# Altium footprint library CH340X.PcbLib: 3 footprints
Each footprint in its own frame and in the unit in brackets; x right, y up, seen from the top. Pads: shape width x height; smd on the part's side, far side on the other; paste and mask are expansions set on the pad; w line width, h text height; cw(c..) or ccw(c..) is an arc to the next point about the centre after c.
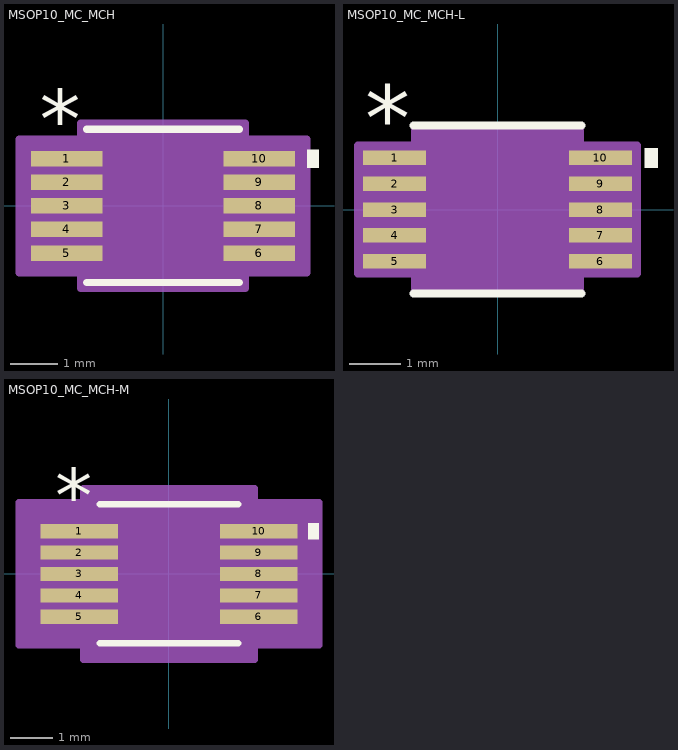
[diagram p0: the footprints below, top view; thin cyan lines are the x and y axes]

## MSOP10_MC_MCH [mil]
pads (10):
  rect 59.56x13 smd paste+0 mask+0: 1(-80.5,39.37) 2(-80.5,19.68) 3(-80.5,0) 4(-80.5,-19.68) 5(-80.5,-39.37) 6(80.5,-39.37) 7(80.5,-19.68) 8(80.5,0) 9(80.5,19.68) 10(80.5,39.37)
Top Overlay:
  region: 120.28,46.87 130.28,46.87 130.28,31.87 120.28,31.87
  lines w6: -64,-64 64,-64 ; -64,64 64,64
  text "*" at -103,47.37 h50
Mechanical 13:
  lines w0: -12,59 ccw(c0,59) 12,59
  lines w1: -96.5,-45.87 -96.5,-32.87 -59,-32.87 -59,-45.87 -96.5,-45.87 ; -96.5,-26.18 -96.5,-13.19 -59,-13.19 -59,-26.18 -96.5,-26.18 ; -96.5,-6.5 -96.5,6.5 -59,6.5 -59,-6.5 -96.5,-6.5 ; -96.5,13.19 -96.5,26.18 -59,26.18 -59,13.19 -96.5,13.19 ; -96.5,32.87 -96.5,45.87 -59,45.87 -59,32.87 -96.5,32.87 ; -59,-59 59,-59 59,59 -59,59 -59,-59 ; 59,-45.87 59,-32.87 96.5,-32.87 96.5,-45.87 59,-45.87 ; 59,-26.18 59,-13.19 96.5,-13.19 96.5,-26.18 59,-26.18 ; 59,-6.5 59,6.5 96.5,6.5 96.5,-6.5 59,-6.5 ; 59,13.19 59,26.18 96.5,26.18 96.5,13.19 59,13.19 ; 59,32.87 59,45.87 96.5,45.87 96.5,32.87 59,32.87
  text "*" at -56.5,6 h50
Mechanical 15:
  region: -69,-55.87 -120.28,-55.87 -120.28,55.87 -69,55.87 -69,69 69,69 69,55.87 120.28,55.87 120.28,-55.87 69,-55.87 69,-69 -69,-69
  lines w6: -120.28,-55.87 -120.28,55.87 -69,55.87 -69,69 69,69 69,55.87 120.28,55.87 120.28,-55.87 69,-55.87 69,-69 -69,-69 -69,-55.87 -120.28,-55.87
3D body "MSOP10_MC_MCH.step": height 43.11, standoff 0, extent -96.5,-59.02 96.5,59.02

## MSOP10_MC_MCH-L [mm]
pads (10):
  rect 1.213x0.28 smd paste+0 mask+0: 1(-1.995,1) 2(-1.995,0.5) 3(-1.995,0) 4(-1.995,-0.5) 5(-1.995,-1) 6(1.995,-1) 7(1.995,-0.5) 8(1.995,0) 9(1.995,0.5) 10(1.995,1)
Top Overlay:
  region: 2.855,1.191 3.109,1.191 3.109,0.81 2.855,0.81
  lines w0.152: -1.626,-1.626 1.626,-1.626 ; -1.626,1.626 1.626,1.626
  text "*" at -2.566,1.153 h1.27
Mechanical 13:
  lines w0: -0.305,1.499 ccw(c0,1.499) 0.305,1.499
  lines w0.025: -2.451,-1.165 -2.451,-0.835 -1.499,-0.835 -1.499,-1.165 -2.451,-1.165 ; -2.451,-0.665 -2.451,-0.335 -1.499,-0.335 -1.499,-0.665 -2.451,-0.665 ; -2.451,-0.165 -2.451,0.165 -1.499,0.165 -1.499,-0.165 -2.451,-0.165 ; -2.451,0.335 -2.451,0.665 -1.499,0.665 -1.499,0.335 -2.451,0.335 ; -2.451,0.835 -2.451,1.165 -1.499,1.165 -1.499,0.835 -2.451,0.835 ; -1.499,-1.499 1.499,-1.499 1.499,1.499 -1.499,1.499 -1.499,-1.499 ; 1.499,-1.165 1.499,-0.835 2.451,-0.835 2.451,-1.165 1.499,-1.165 ; 1.499,-0.665 1.499,-0.335 2.451,-0.335 2.451,-0.665 1.499,-0.665 ; 1.499,-0.165 1.499,0.165 2.451,0.165 2.451,-0.165 1.499,-0.165 ; 1.499,0.335 1.499,0.665 2.451,0.665 2.451,0.335 1.499,0.335 ; 1.499,0.835 1.499,1.165 2.451,1.165 2.451,0.835 1.499,0.835
  text "*" at -1.435,0.152 h1.27
Mechanical 15:
  region: -1.6,-1.242 -2.703,-1.242 -2.703,1.242 -1.6,1.242 -1.6,1.6 1.6,1.6 1.6,1.242 2.703,1.242 2.703,-1.242 1.6,-1.242 1.6,-1.6 -1.6,-1.6
  lines w0.152: -2.703,-1.242 -2.703,1.242 -1.6,1.242 -1.6,1.6 1.6,1.6 1.6,1.242 2.703,1.242 2.703,-1.242 1.6,-1.242 1.6,-1.6 -1.6,-1.6 -1.6,-1.242 -2.703,-1.242
3D body "MSOP10_MC_MCH.step": height 1.09, standoff 0, extent -2.451,-1.499 2.451,1.499

## MSOP10_MC_MCH-M [mil]
pads (10):
  rect 71.37x13 smd paste+0 mask+0: 1(-82.47,39.37) 2(-82.47,19.68) 3(-82.47,0) 4(-82.47,-19.68) 5(-82.47,-39.37) 6(82.47,-39.37) 7(82.47,-19.68) 8(82.47,0) 9(82.47,19.68) 10(82.47,39.37)
Top Overlay:
  region: 128.15,46.87 138.15,46.87 138.15,31.87 128.15,31.87
  lines w6: -64,-64 64,-64 ; -64,64 64,64
  text "*" at -104.97,47.37 h50
Mechanical 13:
  lines w0: -12,59 ccw(c0,59) 12,59
  lines w1: -96.5,-45.87 -96.5,-32.87 -59,-32.87 -59,-45.87 -96.5,-45.87 ; -96.5,-26.18 -96.5,-13.19 -59,-13.19 -59,-26.18 -96.5,-26.18 ; -96.5,-6.5 -96.5,6.5 -59,6.5 -59,-6.5 -96.5,-6.5 ; -96.5,13.19 -96.5,26.18 -59,26.18 -59,13.19 -96.5,13.19 ; -96.5,32.87 -96.5,45.87 -59,45.87 -59,32.87 -96.5,32.87 ; -59,-59 59,-59 59,59 -59,59 -59,-59 ; 59,-45.87 59,-32.87 96.5,-32.87 96.5,-45.87 59,-45.87 ; 59,-26.18 59,-13.19 96.5,-13.19 96.5,-26.18 59,-26.18 ; 59,-6.5 59,6.5 96.5,6.5 96.5,-6.5 59,-6.5 ; 59,13.19 59,26.18 96.5,26.18 96.5,13.19 59,13.19 ; 59,32.87 59,45.87 96.5,45.87 96.5,32.87 59,32.87
  text "*" at -56.5,6 h50
Mechanical 15:
  region: -79,-65.87 -138.15,-65.87 -138.15,65.87 -79,65.87 -79,79 79,79 79,65.87 138.15,65.87 138.15,-65.87 79,-65.87 79,-79 -79,-79
  lines w6: -138.15,-65.87 -138.15,65.87 -79,65.87 -79,79 79,79 79,65.87 138.15,65.87 138.15,-65.87 79,-65.87 79,-79 -79,-79 -79,-65.87 -138.15,-65.87
3D body "MSOP10_MC_MCH.step": height 43.11, standoff 0, extent -96.5,-59.02 96.5,59.02